# EAGLE library part LTC6802-1 (library KylePile)
LTC6802-1 Li-ion stack monitor Device untested 2/16/16 KRP
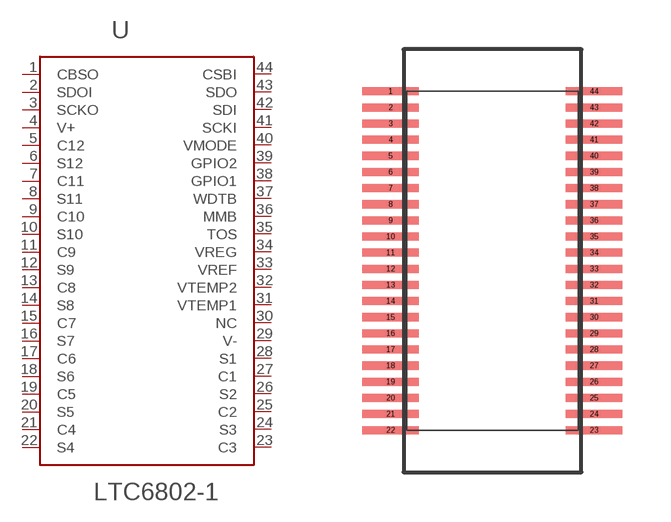
[diagram p18: symbol with the pads of 44-SSOP; footprint 44-SSOP]

Designator prefix U

## LTC6802-1  [44-SSOP]
1  CBSO
2  SDOI
3  SCKO
4  V+
5  C12
6  S12
7  C11
8  S11
9  C10
10  S10
11  C9
12  S9
13  C8
14  S8
15  C7
16  S7
17  C6
18  S6
19  C5
20  S5
21  C4
22  S4
23  C3
24  S3
25  C2
26  S2
27  C1
28  S1
29  V-
30  NC
31  VTEMP1
32  VTEMP2
33  VREF
34  VREG
35  TOS
36  MMB
37  WDTB
38  GPIO1
39  GPIO2
40  VMODE
41  SCKI
42  SDI
43  SDO
44  CSBI

## Footprint 44-SSOP (pad centres in mm)
44-SSOP Untested 2/16/16 KRP
smd 1.75 x 0.25: 1 -0.5,10.5; 2 -0.5,10; 3 -0.5,9.5; 4 -0.5,9; 5 -0.5,8.5; 6 -0.5,8; 7 -0.5,7.5; 8 -0.5,7; 9 -0.5,6.5; 10 -0.5,6; 11 -0.5,5.5; 12 -0.5,5; 13 -0.5,4.5; 14 -0.5,4; 15 -0.5,3.5; 16 -0.5,3; 17 -0.5,2.5; 18 -0.5,2; 19 -0.5,1.5; 20 -0.5,1; 21 -0.5,0.5; 22 -0.5,0; 23 5.8,0; 24 5.8,0.5; 25 5.8,1; 26 5.8,1.5; 27 5.8,2; 28 5.8,2.5; 29 5.8,3; 30 5.8,3.5; 31 5.8,4; 32 5.8,4.5; 33 5.8,5; 34 5.8,5.5; 35 5.8,6; 36 5.8,6.5; 37 5.8,7; 38 5.8,7.5; 39 5.8,8; 40 5.8,8.5; 41 5.8,9; 42 5.8,9.5; 43 5.8,10; 44 5.8,10.5